# EAGLE library part MAGNETOMETER,3D#1 (library QuantumOptics)
3D magnetometer as for phones, such as Honeywell HMC1043.
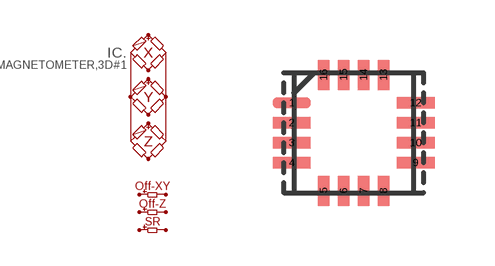
[diagram p183: symbol with the pads of LPCC-16; footprint LPCC-16]

Designator prefix IC; gates .=MAGNETOMETER,3D,BRIDGE#1 G$2=MAGNETOMETER,3D,SET_RESET_OFFSET#1

## MAGNETOMETER,3D#1-LPCC16  [LPCC-16]
1  .:Y-
2  .:EXCITE-
3  .:X+
4  G$2:OFFXY-
5  G$2:SR+
6  .:Y+
7  G$2:SR-
10  .:Z-
11  .:Z+
12  .:EXCITE+
13  G$2:OFFZ-
14  G$2:OFFZ+
15  .:X-
16  G$2:OFFXY+

## Footprint LPCC-16 (pad centres in mm)
LPCC-16, taken from Honeywell HMC1043 3D magnetometer. Wider footprint is for wide package such as HMC1043L.
smd 0.95 x 0.28: 1 -1.55,0.75; 2 -1.55,0.25; 3 -1.55,-0.25; 4 -1.55,-0.75; 9 1.55,-0.75; 10 1.55,-0.25; 11 1.55,0.25; 12 1.55,0.75
smd 0.28 x 0.75: 5 -0.75,-1.45; 6 -0.25,-1.45; 7 0.25,-1.45; 8 0.75,-1.45; 13 0.75,1.45; 14 0.25,1.45; 15 -0.25,1.45; 16 -0.75,1.45